# Altium footprint library IC.PcbLib: 37 footprints (part 1 of 3)
Each footprint in its own frame and in the unit in brackets; x right, y up, seen from the top. Pads: shape width x height; smd on the part's side, far side on the other; paste and mask are expansions set on the pad; w line width, h text height; cw(c..) or ccw(c..) is an arc to the next point about the centre after c.
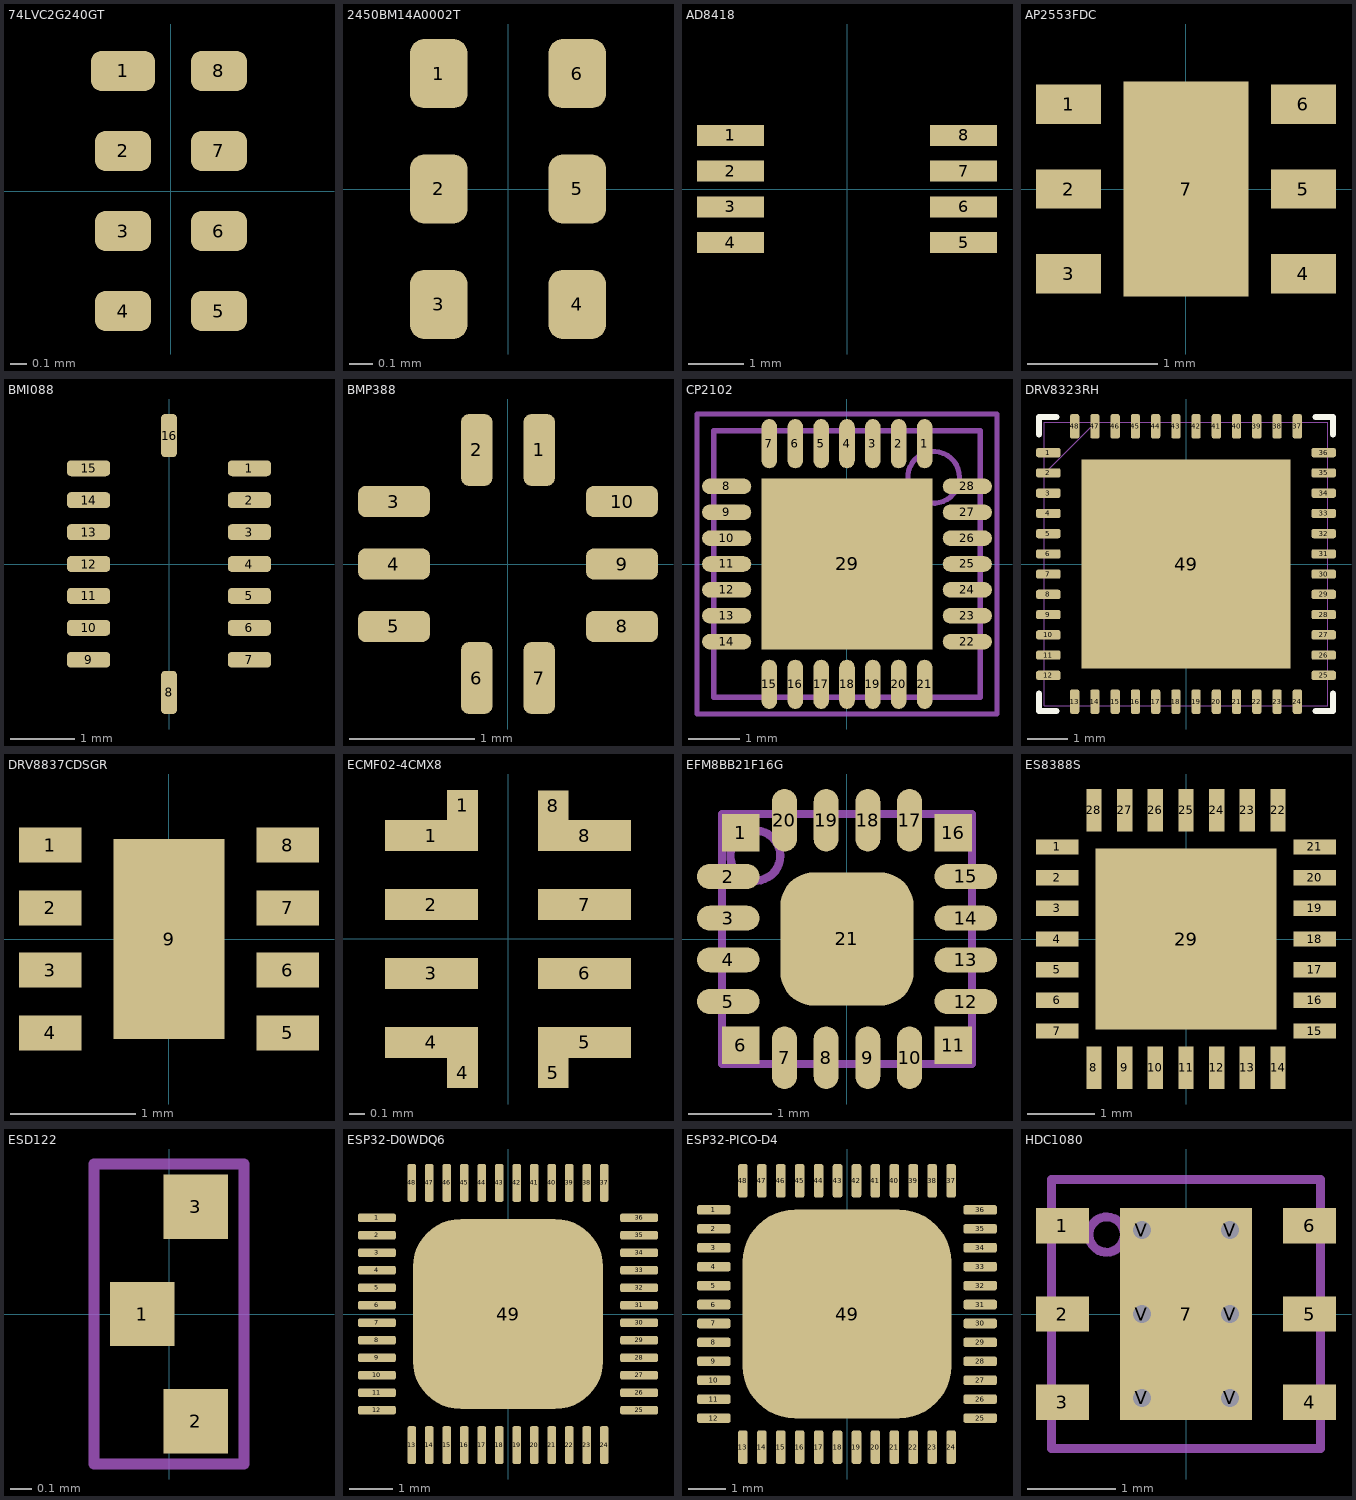
[diagram p0: the footprints below, top view; thin cyan lines are the x and y axes]

## 74LVC2G240GT [mm]
pads (8):
  rrect50% 0.4x0.25 smd: 1(-0.3,0.75)
  rrect50% 0.35x0.25 smd: 2(-0.3,0.25) 3(-0.3,-0.25) 4(-0.3,-0.75) 5(0.3,-0.75) 6(0.3,-0.25) 7(0.3,0.25) 8(0.3,0.75)
3D body "User Library-SOT833-1 (XSON8).STEP": height 0.46, standoff -0.04, extent -0.525,-1 0.525,1

## 2450BM14A0002T [mm] "BALUN FILTER"
pads (6):
  rrect50% 0.25x0.3 smd mask+0: 1(-0.3,0.5)
  rrect50% 0.25x0.3 smd paste+0 mask+0: 2(-0.3,0) 3(-0.3,-0.5) 4(0.3,-0.5) 5(0.3,0) 6(0.3,0.5)
3D body "User Library-2450BM14A0002.STEP": height 0.6, standoff 0, extent -0.4,-0.8 0.4,0.8

## AD8418 [mil]
pads (8):
  rect 48x15 smd paste+0 mask+0: 1(-83.5,38.39) 2(-83.5,12.8) 3(-83.5,-12.8) 4(-83.5,-38.39) 5(83.5,-38.39) 6(83.5,-12.8) 7(83.5,12.8) 8(83.5,38.39)
3D body "RM_8_ADI-L.step": height 43.11, standoff 0, extent -101.49,-62.98 101.5,63
3D body: height 10, standoff 0, extent 0,0 10,10

## AP2553FDC [mm] "DFN2*2"
pads (7):
  rect 0.5x0.3 smd: 1(-0.9,0.65) 2(-0.9,0) 3(-0.9,-0.65) 4(0.9,-0.65) 5(0.9,0) 6(0.9,0.65)
  rect 0.96x1.65 smd: 7(0,0)
3D body "User Library-DFN6.STEP": height 1, standoff 0, extent -1.01,-1 1.01,1

## BMI088 [mm]
pads (16):
  rrect50% 0.675x0.25 smd: 1(1.261,1.5) 2(1.261,1) 3(1.261,0.5) 4(1.261,0) 5(1.261,-0.5) 6(1.261,-1) 7(1.261,-1.5) 9(-1.261,-1.5) 10(-1.261,-1) 11(-1.261,-0.5) 12(-1.261,0) 13(-1.261,0.5) 14(-1.261,1) 15(-1.261,1.5)
  rrect50% 0.25x0.675 smd: 8(0,-2.013) 16(0,2.013)
3D body: height 0.82, standoff 0, extent -1.475,-2.275 1.511,2.3

## BMP388 [mm]
pads (10):
  rrect50% 0.25x0.575 smd: 1(0.25,0.913) 2(-0.25,0.913) 6(-0.25,-0.913) 7(0.25,-0.913)
  rrect50% 0.575x0.25 smd: 3(-0.913,0.5) 4(-0.913,0) 5(-0.913,-0.5) 8(0.913,-0.5) 9(0.913,0) 10(0.913,0.5)
3D body: height 0.75, standoff 0, extent -1,-1 1,1

## CP2102 [mm]
pads (29):
  oval 0.3x0.95 smd: 1(1.5,2.325) 2(1,2.325) 3(0.5,2.325) 4(0,2.325) 5(-0.5,2.325) 6(-1,2.325) 7(-1.5,2.325) 15(-1.5,-2.325) 16(-1,-2.325) 17(-0.5,-2.325) 18(0,-2.325) 19(0.5,-2.325) 20(1,-2.325) 21(1.5,-2.325)
  oval 0.95x0.3 smd: 8(-2.325,1.5) 9(-2.325,1) 10(-2.325,0.5) 11(-2.325,0) 12(-2.325,-0.5) 13(-2.325,-1) 14(-2.325,-1.5) 22(2.325,-1.5) 23(2.325,-1) 24(2.325,-0.5) 25(2.325,0) 26(2.325,0.5) 27(2.325,1) 28(2.325,1.5)
  rect 3.3x3.3 smd: 29(0,0)
Mechanical 13:
  circle w0.1: c1.675,1.675 r0.5
  lines w0.1: -2.575,-2.575 2.575,-2.575 2.575,2.575 -2.575,2.575 -2.575,-2.575
Mechanical 15:
  lines w0.1: -0.5,0 0.5,0 ; 0,-0.5 0,0.5 ; -2.9,-2.9 2.9,-2.9 2.9,2.9 -2.9,2.9 -2.9,-2.9
3D body: height 1, standoff 0, extent -2.575,-2.575 2.575,2.575

## DRV8323RH [mil]
pads (49):
  rrect50% 24x9 smd paste+0 mask+2: 1(-133.86,108.27) 2(-133.86,88.58) 3(-133.86,68.9) 4(-133.86,49.21) 5(-133.86,29.53) 6(-133.86,9.84) 7(-133.86,-9.84) 8(-133.86,-29.53) 9(-133.86,-49.21) 10(-133.86,-68.9) 11(-133.86,-88.58) 12(-133.86,-108.27) 25(133.86,-108.27) 26(133.86,-88.58) 27(133.86,-68.9) 28(133.86,-49.21) 29(133.86,-29.53) 30(133.86,-9.84) 31(133.86,9.84) 32(133.86,29.53) 33(133.86,49.21) 34(133.86,68.9) 35(133.86,88.58) 36(133.86,108.27)
  rrect50% 9x24 smd paste+0 mask+2: 13(-108.27,-133.86) 14(-88.58,-133.86) 15(-68.9,-133.86) 16(-49.21,-133.86) 17(-29.53,-133.86) 18(-9.84,-133.86) 19(9.84,-133.86) 20(29.53,-133.86) 21(49.21,-133.86) 22(68.9,-133.86) 23(88.58,-133.86) 24(108.27,-133.86) 37(108.27,133.86) 38(88.58,133.86) 39(68.9,133.86) 40(49.21,133.86) 41(29.53,133.86) 42(9.84,133.86) 43(-9.84,133.86) 44(-29.53,133.86) 45(-49.21,133.86) 46(-68.9,133.86) 47(-88.58,133.86) 48(-108.27,133.86)
  rect 203x203 smd paste-101 mask-101: 49(0,0)
Top Overlay:
  lines w6: -143,-125.87 -143,-143 -125.87,-143 ; -143,125.87 -143,143 -125.87,143 ; 125.87,-143 143,-143 143,-125.87 ; 125.87,143 143,143 143,125.87
Top Paste:
  drawing of 49 lines, arcs and shapes, not listed
Top Solder:
  region: 85.37,-104 85.37,104 104,104 104,-104
  region: 69.63,-104 69.63,104 54.37,104 54.37,-104
  region: 38.63,-104 38.63,104 23.37,104 23.37,-104
  region: 7.63,-104 7.63,104 -7.63,104 -7.63,-104
  region: -23.37,-104 -23.37,104 -38.63,104 -38.63,-104
  region: -54.37,-104 -54.37,104 -69.63,104 -69.63,-104
  region: -104,-104 -104,104 -85.37,104 -85.37,-104
  region: -104,-104 -104,-85.37 104,-85.37 104,-104
  region: -104,-69.63 -104,-54.37 104,-54.37 104,-69.63
  region: -104,-38.63 -104,-23.37 104,-23.37 104,-38.63
  region: -104,-7.63 -104,7.63 104,7.63 104,-7.63
  region: -104,23.37 -104,38.63 104,38.63 104,23.37
  region: -104,54.37 -104,69.63 104,69.63 104,54.37
  region: -104,85.37 -104,104 104,104 104,85.37
Mechanical 13:
  lines w1: -138,88 -88,138 ; -138,-138 -138,138 138,138 138,-138 -138,-138
Mechanical 16:
  circle w0: c91.58,49.63 r4
  circle w0: c91.58,0.01 r4
  circle w0: c91.58,-49.61 r4
  circle w0: c49.63,91.58 r4
  circle w0: c49.63,49.63 r4
  circle w0: c49.63,0.01 r4
  circle w0: c49.63,-49.61 r4
  circle w0: c49.63,-91.56 r4
  circle w0: c0.01,91.58 r4
  circle w0: c0.01,49.63 r4
  circle w0: c0.01,0.01 r4
  circle w0: c0.01,-49.61 r4
  circle w0: c0.01,-91.56 r4
  circle w0: c-49.61,91.58 r4
  circle w0: c-49.61,49.63 r4
  circle w0: c-49.61,0.01 r4
  circle w0: c-49.61,-49.61 r4
  circle w0: c-49.61,-91.56 r4
  circle w0: c-91.56,49.63 r4
  circle w0: c-91.56,0.01 r4
  circle w0: c-91.56,-49.61 r4
3D body "ALSRobot-QFN48 7x7.STEP": height 30.71, standoff -0.79, extent -138.19,-138.19 138.19,138.19
3D body: height 10, standoff 0, extent 0,0 10,10

## DRV8837CDSGR [mm]
pads (9):
  rect 0.5x0.28 smd paste-0.14 mask+0: 1(-0.95,0.75) 2(-0.95,0.25) 3(-0.95,-0.25) 4(-0.95,-0.75) 5(0.95,-0.75) 6(0.95,-0.25) 7(0.95,0.25) 8(0.95,0.75)
  rect 0.889x1.6 smd paste-0.787 mask-0.787: 9(0,0)
Top Layer:
  region: 0,0.8
  region: 0,-0.8
3D body "User Library-SON8-2x2mm-1.step": height 0.77, standoff -0.03, extent -1,-1 1,1

## ECMF02-4CMX8 [mm]
pads (12):
  rect 0.61x0.203 smd mask+0.1: 1(-0.5,0.675) 2(-0.5,0.225) 3(-0.5,-0.225) 4(-0.5,-0.675) 5(0.5,-0.675) 6(0.5,-0.225) 7(0.5,0.225) 8(0.5,0.675)
  rect 0.2x0.2 smd: 1(-0.297,0.874) 4(-0.297,-0.874) 5(0.296,-0.874) 8(0.296,0.87)
Top Paste:
  region: -0.398,-0.777 -0.195,-0.777 -0.195,-0.98 -0.398,-0.98
  region: -0.398,0.776 -0.398,0.98 -0.195,0.98 -0.195,0.776
  region: 0.195,0.98 0.398,0.98 0.398,0.776 0.195,0.776
  region: 0.195,-0.98 0.195,-0.777 0.398,-0.777 0.398,-0.98
Top Solder:
  region: -0.398,0.776 -0.398,0.98 -0.195,0.98 -0.195,0.776
  region: 0.195,0.98 0.398,0.98 0.398,0.776 0.195,0.776
  region: 0.195,-0.98 0.195,-0.777 0.398,-0.777 0.398,-0.98
  region: -0.398,-0.777 -0.195,-0.777 -0.195,-0.98 -0.398,-0.98
  region: -0.398,0.776 -0.398,0.98 -0.195,0.98 -0.195,0.776
  region: 0.195,0.98 0.398,0.98 0.398,0.776 0.195,0.776
  region: 0.195,-0.98 0.195,-0.777 0.398,-0.777 0.398,-0.98
  region: -0.398,-0.777 -0.195,-0.777 -0.195,-0.98 -0.398,-0.98
3D body: height 0.5, standoff 0, extent -0.635,-1.27 0.635,1.27

## EFM8BB21F16G [mm] "QFN20"
pads (21):
  rect 0.45x0.45 smd mask+0.051: 1(-1.275,1.275) 6(-1.275,-1.275) 11(1.275,-1.275) 16(1.275,1.275)
  oval 0.75x0.3 smd mask+0.051: 2(-1.425,0.75) 3(-1.425,0.25) 4(-1.425,-0.25) 5(-1.425,-0.75) 12(1.425,-0.75) 13(1.425,-0.25) 14(1.425,0.25) 15(1.425,0.75)
  oval 0.3x0.75 smd mask+0.051: 7(-0.75,-1.425) 8(-0.25,-1.425) 9(0.25,-1.425) 10(0.75,-1.425) 17(0.75,1.425) 18(0.25,1.425) 19(-0.25,1.425) 20(-0.75,1.425)
  rrect50% 1.6x1.6 smd mask+0.051: 21(0,0)
Mechanical 13:
  circle w0.1: c-1.1,1 r0.3
  lines w0.1: -1.5,-1.5 -1.5,1.5 1.5,1.5 1.5,-1.5 -1.5,-1.5
3D body "SW3dPS-QFN-20.STEP": height 0.62, standoff -0.08, extent -1.5,-1.5 1.5,1.5

## ES8388S [mil]
pads (29):
  rect 25x9 smd paste+0 mask+0: 1(-75.5,54) 2(-75.5,36) 3(-75.5,18) 4(-75.5,0) 5(-75.5,-18) 6(-75.5,-36) 7(-75.5,-54) 15(75.5,-54) 16(75.5,-36) 17(75.5,-18) 18(75.5,0) 19(75.5,18) 20(75.5,36) 21(75.5,54)
  rect 9x25 smd paste+0 mask+0: 8(-54,-75.5) 9(-36,-75.5) 10(-18,-75.5) 11(0,-75.5) 12(18,-75.5) 13(36,-75.5) 14(54,-75.5) 22(54,75.5) 23(36,75.5) 24(18,75.5) 25(0,75.5) 26(-18,75.5) 27(-36,75.5) 28(-54,75.5)
  rect 106x106 smd paste-52.5 mask+0: 29(0,0)
3D body "QFNWB4X4-28L-A_ESC.step": height 35.12, standoff 0, extent -79.99,-79.99 80.01,80.01

## ESD122 [mm]
pads (3):
  rect 0.3x0.3 smd paste-0.137 mask-0.051: 1(-0.125,0) 2(0.125,-0.5) 3(0.125,0.5)
Top Paste:
  region: -0.229,-0.064 -0.23,-0.055 -0.23,0.055 -0.229,0.064 -0.226,0.074 -0.222,0.083 -0.215,0.09 -0.208,0.097 -0.199,0.101 -0.189,0.104 -0.18,0.105 -0.07,0.105 -0.061,0.104 -0.051,0.101 -0.042,0.097 -0.035,0.09 -0.028,0.083 -0.024,0.074 -0.021,0.064 -0.02,0.055 -0.02,-0.055 -0.021,-0.064 -0.024,-0.074 -0.028,-0.083 -0.035,-0.09 -0.042,-0.097 -0.051,-0.101 -0.061,-0.104 -0.07,-0.105 -0.18,-0.105 -0.189,-0.104 -0.199,-0.101 -0.208,-0.097 -0.215,-0.09 -0.222,-0.083 -0.226,-0.074
  region: 0.021,-0.564 0.02,-0.555 0.02,-0.445 0.021,-0.436 0.024,-0.426 0.028,-0.417 0.035,-0.41 0.042,-0.403 0.051,-0.399 0.061,-0.396 0.07,-0.395 0.18,-0.395 0.189,-0.396 0.199,-0.399 0.208,-0.403 0.215,-0.41 0.222,-0.417 0.226,-0.426 0.229,-0.436 0.23,-0.445 0.23,-0.555 0.229,-0.564 0.226,-0.574 0.222,-0.583 0.215,-0.59 0.208,-0.597 0.199,-0.601 0.189,-0.604 0.18,-0.605 0.07,-0.605 0.061,-0.604 0.051,-0.601 0.042,-0.597 0.035,-0.59 0.028,-0.583 0.024,-0.574
  region: 0.021,0.436 0.02,0.445 0.02,0.555 0.021,0.564 0.024,0.574 0.028,0.583 0.035,0.59 0.042,0.597 0.051,0.601 0.061,0.604 0.07,0.605 0.18,0.605 0.189,0.604 0.199,0.601 0.208,0.597 0.215,0.59 0.222,0.583 0.226,0.574 0.229,0.564 0.23,0.555 0.23,0.445 0.229,0.436 0.226,0.426 0.222,0.417 0.215,0.41 0.208,0.403 0.199,0.399 0.189,0.396 0.18,0.395 0.07,0.395 0.061,0.396 0.051,0.399 0.042,0.403 0.035,0.41 0.028,0.417 0.024,0.426
Mechanical 13:
  lines w0.05: -0.35,-0.7 0.35,-0.7 0.35,0.7 -0.35,0.7 -0.35,-0.7
3D body: height 0.25, standoff 0, extent -0.325,-0.675 0.325,0.675

## ESP32-D0WDQ6 [mil]
pads (49):
  rrect50% 34x8 smd paste+0 mask+0: 1(-118,86.61) 2(-118,70.87) 3(-118,55.12) 4(-118,39.37) 5(-118,23.62) 6(-118,7.87) 7(-118,-7.87) 8(-118,-23.62) 9(-118,-39.37) 10(-118,-55.12) 11(-118,-70.87) 12(-118,-86.61) 25(118,-86.61) 26(118,-70.87) 27(118,-55.12) 28(118,-39.37) 29(118,-23.62) 30(118,-7.87) 31(118,7.87) 32(118,23.62) 33(118,39.37) 34(118,55.12) 35(118,70.87) 36(118,86.61)
  rrect50% 8x34 smd paste+0 mask+0: 13(-86.61,-118) 14(-70.87,-118) 15(-55.12,-118) 16(-39.37,-118) 17(-23.62,-118) 18(-7.87,-118) 19(7.87,-118) 20(23.62,-118) 21(39.37,-118) 22(55.12,-118) 23(70.87,-118) 24(86.61,-118) 37(86.61,118) 38(70.87,118) 39(55.12,118) 40(39.37,118) 41(23.62,118) 42(7.87,118) 43(-7.87,118) 44(-23.62,118) 45(-39.37,118) 46(-55.12,118) 47(-70.87,118) 48(-86.61,118)
  rrect50% 171x171 smd paste-85 mask+0: 49(0,0)
3D body "QFN48_SLP_6X6_EXP.step": height 35.12, standoff 0, extent -119.01,-119.01 119.02,119.02

## ESP32-PICO-D4 [mil]
pads (49):
  rrect50% 35x10 smd paste+0 mask+0: 1(-138.5,108.27) 2(-138.5,88.58) 3(-138.5,68.9) 4(-138.5,49.21) 5(-138.5,29.53) 6(-138.5,9.84) 7(-138.5,-9.84) 8(-138.5,-29.53) 9(-138.5,-49.21) 10(-138.5,-68.9) 11(-138.5,-88.58) 12(-138.5,-108.27) 25(138.5,-108.27) 26(138.5,-88.58) 27(138.5,-68.9) 28(138.5,-49.21) 29(138.5,-29.53) 30(138.5,-9.84) 31(138.5,9.84) 32(138.5,29.53) 33(138.5,49.21) 34(138.5,68.9) 35(138.5,88.58) 36(138.5,108.27)
  rrect50% 10x35 smd paste+0 mask+0: 13(-108.27,-138.5) 14(-88.58,-138.5) 15(-68.9,-138.5) 16(-49.21,-138.5) 17(-29.53,-138.5) 18(-9.84,-138.5) 19(9.84,-138.5) 20(29.53,-138.5) 21(49.21,-138.5) 22(68.9,-138.5) 23(88.58,-138.5) 24(108.27,-138.5) 37(108.27,138.5) 38(88.58,138.5) 39(68.9,138.5) 40(49.21,138.5) 41(29.53,138.5) 42(9.84,138.5) 43(-9.84,138.5) 44(-29.53,138.5) 45(-49.21,138.5) 46(-68.9,138.5) 47(-88.58,138.5) 48(-108.27,138.5)
  rrect50% 217x217 smd paste-108 mask+0: 49(0,0)
3D body "ESP32-PICO-D4_EXP.step": height 41.1, standoff 0, extent -139.99,-139.99 140.01,140.01

## HDC1080 [mm]
pads (13):
  rect 0.6x0.4 smd paste+0 mask+0.051: 1(-1.4,1) 2(-1.4,0) 3(-1.4,-1) 4(1.4,-1) 5(1.4,0) 6(1.4,1)
  rect 1.5x2.4 smd paste-1.187 mask+0.051: 7(0,0)
  round 0.5 / inner round 1.524 / far side round 0.5 hole 0.203 mask+0.051: V(-0.5,-0.95) V(-0.5,0) V(-0.5,0.95) V(0.5,-0.95) V(0.5,0) V(0.5,0.95)
Top Paste:
  region: -0.69,1.16 -0.69,0.1 0.69,0.1 0.69,1.16
  region: -0.69,-0.1 -0.69,-1.16 0.69,-1.16 0.69,-0.1
Mechanical 13:
  circle w0.1: c-0.9,0.9 r0.2
  lines w0.1: -1.525,-1.525 1.525,-1.525 1.525,1.525 -1.525,1.525 -1.525,-1.525
3D body: height 0.25, standoff 0, extent 0,0 0.254,0.254
3D body "User Library-TexasInstruments_HDC1080.STEP": height 0.8, standoff 0, extent -1.55,-1.5 1.55,1.5